# EAGLE library part 4-CH_ANALOG_SWITCH_RUC (library 4chAnalogSwitch)
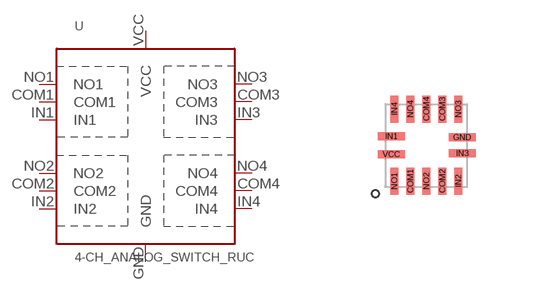
[diagram p1: symbol with the pads of PX2QFN14_RUC; footprint PX2QFN14_RUC]

Designator prefix -

## 4-CH_ANALOG_SWITCH_RUC  [PX2QFN14_RUC]
COM1  COM1
COM2  COM2
COM3  COM3
COM4  COM4
GND  GND
IN1  IN1
IN2  IN2
IN3  IN3
IN4  IN4
NO1  NO1
NO2  NO2
NO3  NO3
NO4  NO4
VCC  VCC

## Footprint PX2QFN14_RUC (pad centres in mm)
smd 0.2 x 0.68: COM1 0.65,0.15; COM2 1.45,0.15; COM3 1.45,1.95; COM4 1.05,1.95; IN2 1.85,0.15; IN4 0.25,1.95; NO1 0.25,0.15; NO2 1.05,0.15; NO3 1.85,1.95; NO4 0.65,1.95
smd 0.68 x 0.2: GND 1.95,1.25; IN1 0.175,1.275; IN3 1.95,0.85; VCC 0.175,0.825